# EAGLE library part PCA9646D (library stutz-eagle)
PCA9646D I2C BUS SWITCH
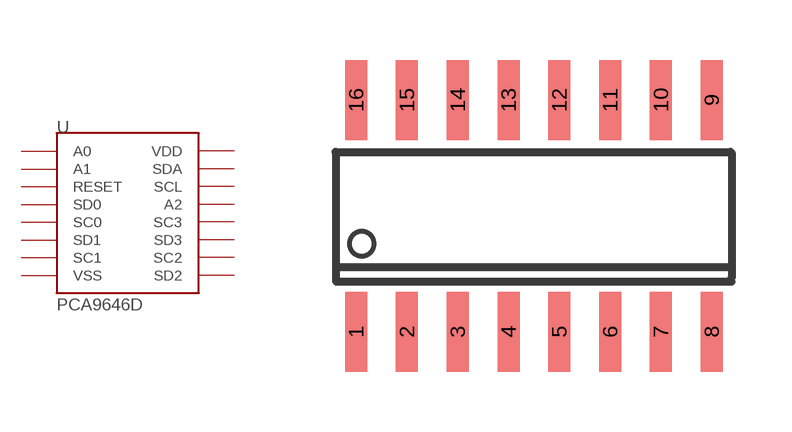
[diagram p4: symbol with the pads of SO16; footprint SO16]

Designator prefix -

## PCA9646D  [SO16]
1  A0  in
2  A1  in
3  RESET  in
4  SD0
5  SC0
6  SD1
7  SC1
8  VSS  pwr
9  SD2
10  SC2
11  SD3
12  SC3
13  A2  in
14  SCL
15  SDA
16  VDD  pwr

## Footprint SO16 (pad centres in mm)
smd 0.55 x 2: 1 -4.445,-2.9; 2 -3.175,-2.9; 3 -1.905,-2.9; 4 -0.635,-2.9; 5 0.635,-2.9; 6 1.905,-2.9; 7 3.175,-2.9; 8 4.445,-2.9; 9 4.445,2.9; 10 3.175,2.9; 11 1.905,2.9; 12 0.635,2.9; 13 -0.635,2.9; 14 -1.905,2.9; 15 -3.175,2.9; 16 -4.445,2.9